# Altium footprint library Mechanical_Connectors_Modular.PcbLib: 7 footprints
Each footprint in its own frame and in the unit in brackets; x right, y up, seen from the top. Pads: shape width x height; smd on the part's side, far side on the other; paste and mask are expansions set on the pad; w line width, h text height; cw(c..) or ccw(c..) is an arc to the next point about the centre after c.
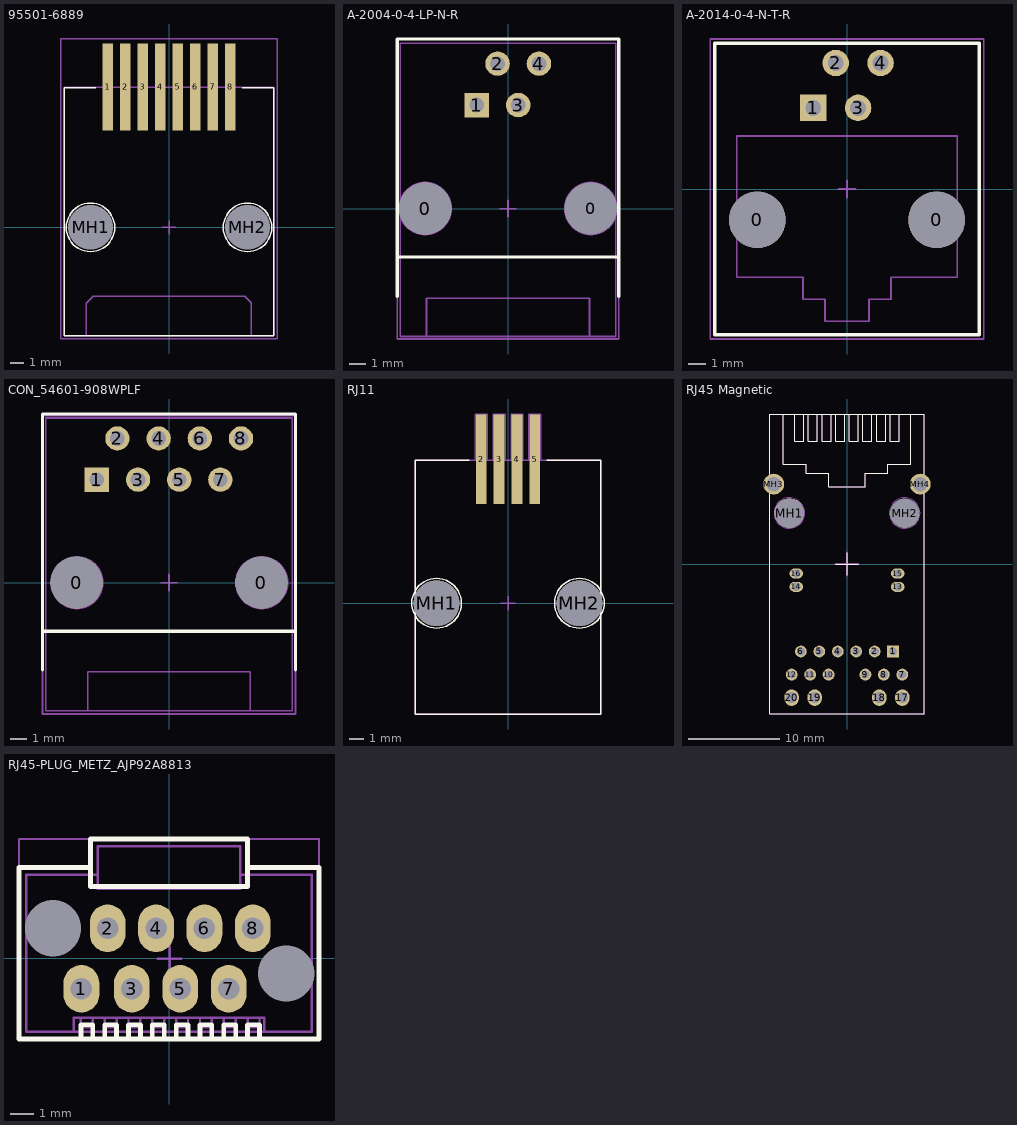
[diagram p0: the footprints below, top view; thin cyan lines are the x and y axes]

## 95501-6889 [mm] "Connector; PCB Jack, SM; 1-Port, 8 Positions, 8 Loaded; Shielded without Lightpipes; Right Angle"
height 12
pads (10):
  rect 0.76x6.35 smd: 1(-4.445,10.225) 2(-3.175,10.225) 3(-1.905,10.225) 4(-0.635,10.225) 5(0.635,10.225) 6(1.905,10.225) 7(3.175,10.225) 8(4.445,10.225)
  round 2.95 hole 3.25 unplated: MH1(-5.715,0) MH2(5.715,0)
Top Overlay:
  circle w0.1: c-5.715,0 r1.764
  circle w0.1: c5.715,0 r1.764
  lines w0.1: -5.334,10.16 -7.62,10.16 -7.62,-7.874 7.62,-7.874 7.62,10.16 5.334,10.16
Top Package:
  circle w0.1: c-5.715,0 r1.5
  circle w0.1: c-5.73,0 r1.5
  circle w0.1: c5.7,0 r1.5
  lines w0.1: -7.62,10.22 -7.62,-7.88 7.62,-7.88 7.62,10.22 ; -7.6,10.22 7.6,10.22 ; -6.03,-7.895 -6.03,-5.53 -5.5,-5 5.5,-5 6,-5.5 6,-7.88 ; -4.7,10.22 -4.7,12.1 -4.2,12.1 -4.2,10.22 ; -3.43,10.22 -3.43,12.1 -2.93,12.1 -2.93,10.22 ; -2.16,10.22 -2.16,12.1 -1.66,12.1 -1.66,10.22 ; -0.89,10.22 -0.89,12.1 -0.39,12.1 -0.39,10.22 ; 0.38,10.22 0.38,12.1 0.88,12.1 0.88,10.22 ; 1.65,10.22 1.65,12.1 2.15,12.1 2.15,10.22 ; 2.92,10.22 2.92,12.1 3.42,12.1 3.42,10.22 ; 4.19,10.22 4.19,12.1 4.69,12.1 4.69,10.22
Top Border:
  lines w0.1: -0.498,-0.001 0.502,-0.001 ; 0.002,-0.501 0.002,0.499 ; -7.874,-8.128 7.874,-8.128 7.874,13.716 -7.874,13.716 -7.874,-8.128
3D body "955016889.STEP": height 11.75, standoff -2.75, extent -7.62,-7.885 7.62,12.665

## A-2004-0-4-LP-N-R [mm]
height 11.7
pads (6):
  round 3.2 hole 3.2: 0(-5.08,0)
  round 1.3 hole 3.2: 0(5.08,0)
  rect 1.5x1.5 hole 0.9: 1(-1.91,6.35)
  round 1.5 hole 0.9: 2(-0.64,8.89) 3(0.63,6.35) 4(1.9,8.89)
Top Overlay:
  lines w0.2: -6.8,-5.375 -6.8,10.4 6.8,10.4 6.8,-5.375 ; -6.8,-2.975 6.8,-2.975
Top Package:
  circle w0.1: c-0.64,8.89 r0.5
  circle w0.1: c0.63,6.35 r0.5
  circle w0.1: c1.9,8.89 r0.5
  circle w0.1: c-1.91,6.35 r0.5
  circle w0.1: c-5.08,0 r1.6
  circle w0.1: c5.08,0 r1.6
  lines w0.1: -5,-7.85 -5,-5.5 5,-5.5 5,-7.85 ; -6.6,-7.85 -6.6,10.15 6.6,10.15 6.6,-7.85 -6.6,-7.85
Top Border:
  lines w0.1: -0.5,0 0.5,0 ; 0,-0.5 0,0.5 ; -6.8,-8 -6.8,10.4 6.8,10.4 6.8,-8 -6.8,-8
3D body "65852.stp": height 11.83, standoff -3.32, extent -6.6,-7.8 6.6,10.2

## A-2014-0-4-N-T-R [mm]
height 16.5
pads (6):
  round 3.2 hole 3.2: 0(-5.08,-1.75) 0(5.08,-1.75)
  rect 1.5x1.5 hole 0.9: 1(-1.91,4.6)
  round 1.5 hole 0.9: 2(-0.64,7.14) 3(0.63,4.6) 4(1.9,7.14)
Top Overlay:
  lines w0.2: -7.5,-8.25 -7.5,8.25 7.5,8.25 7.5,-8.25 -7.5,-8.25
Top Package:
  circle w0.1: c-0.64,7.14 r0.5
  circle w0.1: c0.63,4.6 r0.5
  circle w0.1: c1.9,7.14 r0.5
  circle w0.1: c-1.91,4.6 r0.5
  lines w0.1: -7.5,-8.25 -7.5,8.25 7.5,8.25 7.5,-8.25 -7.5,-8.25 ; -6.25,-5 -6.25,3 6.25,3 6.25,-5 2.5,-5 2.5,-6.25 1.25,-6.25 1.25,-7.5 -1.25,-7.5 -1.25,-6.25 -2.5,-6.25 -2.5,-5 -6.25,-5
Top Border:
  lines w0.1: -0.5,0 0.5,0 ; 0,-0.5 0,0.5 ; -7.75,-8.5 -7.75,8.5 7.75,8.5 7.75,-8.5 -7.75,-8.5
3D body "5520258-2.stp": height 16.5, standoff -3.82, extent -8.001,-8.255 8.001,8.255

## CON_54601-908WPLF [mm]
height 11.5
pads (10):
  round 3.2 hole 3.2: 0(-5.7,0) 0(5.7,0)
  rect 1.5x1.5 hole 0.9: 1(-4.45,6.35)
  round 1.5 hole 0.9: 2(-3.18,8.89) 3(-1.91,6.35) 4(-0.64,8.89) 5(0.63,6.35) 6(1.9,8.89) 7(3.17,6.35) 8(4.44,8.89)
Top Overlay:
  lines w0.2: -7.8,-5.375 -7.8,10.4 7.8,10.4 7.8,-5.375 ; -7.8,-3 7.8,-3
Top Package:
  circle w0.1: c5.72,0 r1.6
  circle w0.1: c-5.68,0 r1.6
  circle w0.1: c-4.45,6.35 r0.5
  circle w0.1: c-1.91,6.35 r0.5
  circle w0.1: c4.44,8.89 r0.5
  circle w0.1: c1.9,8.89 r0.5
  circle w0.1: c3.17,6.35 r0.5
  circle w0.1: c0.63,6.35 r0.5
  circle w0.1: c-0.64,8.89 r0.5
  circle w0.1: c-3.18,8.89 r0.5
  lines w0.1: -5,-7.85 -5,-5.5 5,-5.5 5,-7.85 ; -7.6,-7.9 7.6,-7.9 7.6,10.15 -7.6,10.15 -7.6,-7.9
Top Border:
  lines w0.1: -0.5,0 0.5,0 ; 0,-0.5 0,0.5 ; -7.8,-8.1 7.8,-8.1 7.8,10.3 -7.8,10.3 -7.8,-8.1
3D body "54601-908WPLF.stp": height 11.6, standoff -3.65, extent -7.64,-7.8 7.6,10.2

## RJ11 [mm] "Connector; PCB Jack, SM; 1-Port, 6 Positions, 4 Loaded; Shielded without Lightpipes; Right Angle"
height 12
pads (6):
  rect 0.76x6.35 smd: 2(-1.905,10.225) 3(-0.635,10.225) 4(0.635,10.225) 5(1.905,10.225)
  round 3.25 hole 3.25 unplated: MH1(-5.08,0) MH2(5.08,0)
Top Overlay:
  circle w0.1: c-5.08,0 r1.764
  circle w0.1: c5.08,0 r1.764
  lines w0.1: -2.75,10.16 -6.605,10.16 -6.605,-7.874 6.605,-7.874 6.605,10.16 2.75,10.16
Top Package:
  lines w0.1: -2.325,10.16 -2.325,13.45 -1.475,13.45 -1.475,10.16 ; -1.055,10.16 -1.055,13.45 -0.205,13.45 -0.205,10.16 ; -0.498,-0.001 0.502,-0.001 ; 0.002,-0.501 0.002,0.499 ; 0.215,10.16 0.215,13.45 1.065,13.45 1.065,10.16 ; 1.485,10.16 1.485,13.45 2.335,13.45 2.335,10.16 ; -6.603,-7.874 6.607,-7.874 6.607,10.16 -6.603,10.16 -6.603,-7.874
Top Border:
  lines w0.1: -0.498,-0.001 0.502,-0.001 ; 0.002,-0.501 0.002,0.499 ; -6.603,-7.874 6.607,-7.874 6.607,10.16 -6.603,10.16 -6.603,-7.874
3D body "955016649.STEP": height 11.75, standoff -2.75, extent -6.605,-7.885 6.605,12.665

## RJ45 Magnetic [mm] "LAN-Transformer WE-RJ45LAN 10/100 BaseT PoE+"
height 13.87
pads (24):
  rect 1.3x1.3 hole 0.9 unplated: 1(5.075,-9.63)
  round 1.3 hole 0.9 unplated: 2(3.045,-9.63) 3(1.015,-9.63) 4(-1.015,-9.63) 5(-3.045,-9.63) 6(-5.075,-9.63) 7(6.09,-12.17) 8(4.06,-12.17) 9(2.03,-12.17) 10(-2.03,-12.17) 11(-4.06,-12.17) 12(-6.09,-12.17)
  oval 1.5x1.1 hole 0.9 unplated: 13(5.59,-2.51) 14(-5.59,-2.51) 15(5.59,-1.05) 16(-5.59,-1.05)
  oval 1.6x1.8 hole 1.2 unplated: 17(6.095,-14.71) 18(3.555,-14.71) 19(-3.555,-14.71) 20(-6.095,-14.71)
  round 3.25 hole 3.25 unplated: MH1(-6.35,5.61)
  round 2.95 hole 3.25 unplated: MH2(6.35,5.61)
  round 2.3 hole 1.6 unplated: MH3(-8.065,8.79) MH4(8.065,8.79)
Top Overlay:
  lines w0.1: -7,16.5 -7,11 -4.5,11 -4.5,10 -2,10 -2,8.5 2,8.5 2,10 4.5,10 4.5,11 7,11 7,16.5 ; -5.75,16.5 -5.75,13.5 -4.75,13.5 -4.75,16.5 ; -4.25,16.5 -4.25,13.5 -3.25,13.5 -3.25,16.5 ; -2.75,16.5 -2.75,13.5 -1.75,13.5 -1.75,16.5 ; -1.25,0 1.25,0 ; -1.25,16.5 -1.25,13.5 -0.25,13.5 -0.25,16.5 ; 0,-1.25 0,1.25 ; 0.25,16.5 0.25,13.5 1.25,13.5 1.25,16.5 ; 1.75,16.5 1.75,13.5 2.75,13.5 2.75,16.5 ; 3.25,16.5 3.25,13.5 4.25,13.5 4.25,16.5 ; 4.75,16.5 4.75,13.5 5.75,13.5 5.75,16.5 ; -8.5,-16.5 8.5,-16.5 8.5,16.5 -8.5,16.5 -8.5,-16.5
Top Package:
  circle w0.7: c8.065,8.79 r0.35
  circle w0.7: c-8.065,8.79 r0.35
  circle w0.1: c-6.35,5.61 r1.688
  circle w0.1: c6.35,5.61 r1.688
  circle w0.4: c-5.59,-1.05 r0.2
  circle w0.4: c-5.59,-2.51 r0.2
  circle w0.4: c5.59,-1.05 r0.2
  circle w0.4: c5.59,-2.51 r0.2
  circle w0.4: c-5.075,-9.63 r0.2
  circle w0.4: c-3.045,-9.63 r0.2
  circle w0.4: c-1.015,-9.63 r0.2
  circle w0.4: c1.015,-9.63 r0.2
  circle w0.4: c3.045,-9.63 r0.2
  circle w0.4: c5.075,-9.63 r0.2
  circle w0.4: c6.09,-12.17 r0.2
  circle w0.4: c4.06,-12.17 r0.2
  circle w0.4: c2.03,-12.17 r0.2
  circle w0.4: c-2.03,-12.17 r0.2
  circle w0.4: c-4.06,-12.17 r0.2
  circle w0.4: c-6.09,-12.17 r0.2
  circle w0.4: c8.065,8.79 r0.2
  circle w0.4: c6.095,-14.71 r0.2
  circle w0.4: c3.555,-14.71 r0.2
  circle w0.4: c-3.555,-14.71 r0.2
  circle w0.4: c-6.095,-14.71 r0.2
  lines w0.1: -7,16.5 -7,11 -4.5,11 -4.5,10 -2,10 -2,8.5 2,8.5 2,10 4.5,10 4.5,11 7,11 7,16.5 ; -5.75,16.5 -5.75,13.5 -4.75,13.5 -4.75,16.5 ; -4.25,16.5 -4.25,13.5 -3.25,13.5 -3.25,16.5 ; -2.75,16.5 -2.75,13.5 -1.75,13.5 -1.75,16.5 ; -1.25,16.5 -1.25,13.5 -0.25,13.5 -0.25,16.5 ; 0.25,16.5 0.25,13.5 1.25,13.5 1.25,16.5 ; 1.75,16.5 1.75,13.5 2.75,13.5 2.75,16.5 ; 3.25,16.5 3.25,13.5 4.25,13.5 4.25,16.5 ; 4.75,16.5 4.75,13.5 5.75,13.5 5.75,16.5 ; -8.5,-16.5 -8.5,16.5 8.5,16.5 8.5,-16.5 -8.5,-16.5
Top Border:
  lines w0.1: -8.5,-16.51 -8.5,16.51 8.5,16.51 8.5,-16.51 -8.5,-16.51
  lines w0.254: -1.27,0 1.27,0 ; 0,-1.27 0,1.27
3D body "Jack RJ-45 MAG POE+ 7499411122.stp": height 16.24, standoff -3.23, extent -10.81,-16.51 10.81,16.51

## RJ45-PLUG_METZ_AJP92A8813 [mm] "Through-hole vertical 8P8C RJ45 PCB plug, Cat5, unshielded"
height 11
pads (10):
  round 0 hole 2.36 unplated: 0(-4.875,1.25) 0(4.925,-0.65)
  oval 1.5x2 hole 0.9: 1(-3.677,-1.29) 2(-2.575,1.25) 3(-1.559,-1.29) 4(-0.543,1.25) 5(0.473,-1.29) 6(1.489,1.25) 7(2.505,-1.29) 8(3.521,1.25)
Top Overlay:
  lines w0.2: -3.7,-3.4 -3.7,-2.8 -3.2,-2.8 -3.2,-3.4 ; -2.7,-3.4 -2.7,-2.8 -2.2,-2.8 -2.2,-3.4 ; -1.7,-3.4 -1.7,-2.8 -1.2,-2.8 -1.2,-3.4 ; -0.7,-3.4 -0.7,-2.8 -0.2,-2.8 -0.2,-3.4 ; 0.3,-3.4 0.3,-2.8 0.8,-2.8 0.8,-3.4 ; 1.3,-3.4 1.3,-2.8 1.8,-2.8 1.8,-3.4 ; 2.3,-3.4 2.3,-2.8 2.8,-2.8 2.8,-3.4 ; 3.3,-3.4 3.3,-2.8 3.8,-2.8 3.8,-3.4 ; -3.3,3.8 -6.3,3.8 -6.3,-3.4 6.3,-3.4 6.3,3.8 3.3,3.8 ; -3.3,3.8 -3.3,5 3.3,5 3.3,3.8 ; -3.3,3.8 -3.3,3 3.3,3 3.3,3.8
Top Package:
  circle w0.1: c-4.855,1.25 r1
  circle w0.1: c-0.543,1.25 r0.4
  circle w0.1: c-2.575,1.25 r0.4
  circle w0.1: c1.489,1.25 r0.4
  circle w0.1: c3.521,1.25 r0.4
  circle w0.1: c2.505,-1.29 r0.4
  circle w0.1: c0.473,-1.29 r0.4
  circle w0.1: c-1.559,-1.29 r0.4
  circle w0.1: c-3.677,-1.29 r0.4
  circle w0.1: c4.945,-0.65 r1
  lines w0.1: -4,-3.1 -4,-2.5 4,-2.5 4,-3.1 ; -3.7,-2.5 -3.7,-2.9 -3.2,-2.9 -3.2,-2.5 ; -3,3.5 -6,3.5 -6,-3.1 6,-3.1 6,3.5 3,3.5 ; -2.7,-2.5 -2.7,-2.9 -2.2,-2.9 -2.2,-2.5 ; -1.7,-2.5 -1.7,-2.9 -1.2,-2.9 -1.2,-2.5 ; -0.7,-2.5 -0.7,-2.9 -0.2,-2.9 -0.2,-2.5 ; 0.3,-2.5 0.3,-2.9 0.8,-2.9 0.8,-2.5 ; 1.3,-2.5 1.3,-2.9 1.8,-2.9 1.8,-2.5 ; 2.3,-2.5 2.3,-2.9 2.8,-2.9 2.8,-2.5 ; 3.3,-2.5 3.3,-2.9 3.8,-2.9 3.8,-2.5 ; -3,2.9 3,2.9 3,4.7 -3,4.7 -3,2.9
Top Border:
  lines w0.1: -0.475,-0.025 0.525,-0.025 ; 0.025,-0.525 0.025,0.475 ; -6.3,-3.4 6.3,-3.4 6.3,5 -6.3,5 -6.3,-3.4
3D body "RJ45 PLUG METZ AJP92A8813.stp": height 11.1, standoff -3.2, extent -5.961,-3.1 5.961,4.7